# Altium schematic symbol library Analog.SchLib: 1 symbol
Pins are listed as number, name and electrical type; pins without a type are passive.

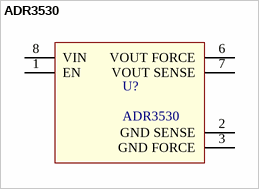
[diagram p0: symbol ADR3530]

## ADR3530
designator U?
Supplier Part Number 1: ADR3530WARMZ-R7
footprint RM-8 (Shrink Small Outline, MSOP; 8 Leads; Body Width 3 mm; Pitch 0.65 mm)
pins: 1 EN, 2 GND SENSE, 3 GND FORCE, 6 VOUT FORCE, 7 VOUT SENSE, 8 VIN